# Altium integrated library Lattice FPGA MachXO2.IntLib: 444 symbols (part 37 of 39)
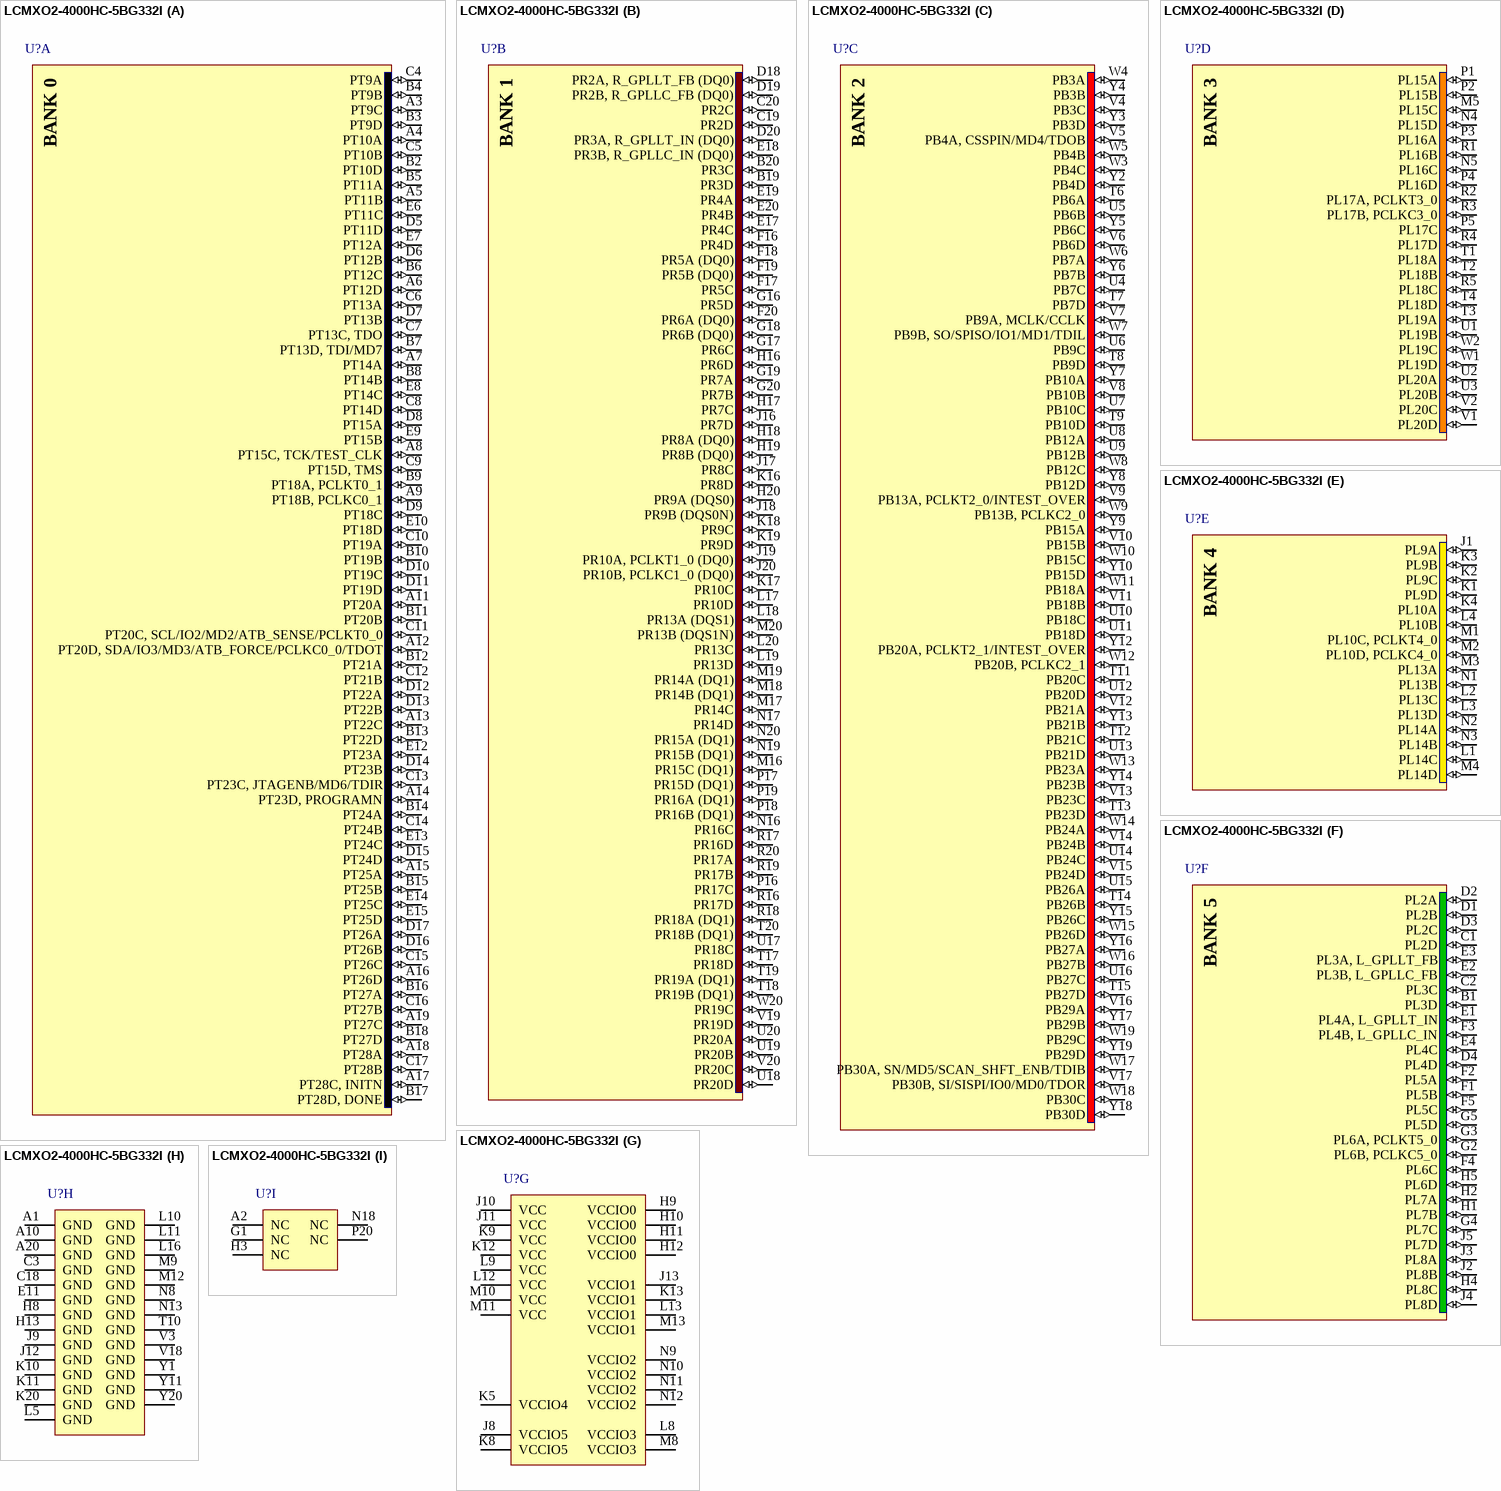
[diagram p441: symbol LCMXO2-4000HC-5BG332I]

## LCMXO2-4000HC-5BG332I
designator U?
MachXO2 High Performance CPLD with 4320 LUTs, Voltage Regulator, 2.5V/3.3V, 332-pin caBGA, Speed Grade-5, Industrial Grade, Halogen Free (RoHS); DatasheetVersion: ver01.5, Aug-2011; PackageVersion: ver02.8, Jul-2011; PackageReference: caBGA332; PackageDescription: 332-Ball caBGA Package, 17 x 17 mm Body, 0.8 mm Pitch; ComponentLink1Description: Manufacturer URL; ComponentLink1URL: http://www.latticesemi.com/; ComponentLink2Description: Datasheet; ComponentLink2URL: http://www.latticesemi.com/documents/DS1035.pdf; ComponentLink3Description: Package Specification; ComponentLink3URL: http://www.latticesemi.com/lit/docs/package/pkg.pdf
footprint caBGA332 (BGA, 332-Leads, Body 17x17mm, Pitch 0.8mm)
part A pins: A3 PT9C (io), A4 PT10A (io), A5 PT11B (io), A6 PT12D (io), A7 PT14A (io), A8 PT15C, TCK/TEST_CLK (io), A9 PT18B, PCLKC0_1 (io), A11 PT20A (io), A12 PT20D, SDA/IO3/MD3/ATB_FORCE/PCLKC0_0/TDOT (io), A13 PT22C (io), A14 PT23D, PROGRAMN (io), A15 PT25A (io), A16 PT26D (io), A17 PT28C, INITN (io), A18 PT28A (io), A19 PT27C (io), B2 PT10D (io), B3 PT9D (io), B4 PT9B (io), B5 PT11A (io), B6 PT12C (io), B7 PT13D, TDI/MD7 (io), B8 PT14B (io), B9 PT18A, PCLKT0_1 (io), B10 PT19B (io), B11 PT20B (io), B12 PT21A (io), B13 PT22D (io), B14 PT24A (io), B15 PT25B (io), B16 PT27A (io), B17 PT28D, DONE (io), B18 PT27D (io), C4 PT9A (io), C5 PT10B (io), C6 PT13A (io), C7 PT13C, TDO (io), C8 PT14D (io), C9 PT15D, TMS (io), C10 PT19A (io), C11 PT20C, SCL/IO2/MD2/ATB_SENSE/PCLKT0_0 (io), C12 PT21B (io), C13 PT23C, JTAGENB/MD6/TDIR (io), C14 PT24B (io), C15 PT26C (io), C16 PT27B (io), C17 PT28B (io), D5 PT11D (io), D6 PT12B (io), D7 PT13B (io), D8 PT15A (io), D9 PT18C (io), D10 PT19C (io), D11 PT19D (io), D12 PT22A (io), D13 PT22B (io), D14 PT23B (io), D15 PT24D (io), D16 PT26B (io), D17 PT26A (io), E6 PT11C (io), E7 PT12A (io), E8 PT14C (io), E9 PT15B (io), E10 PT18D (io), E12 PT23A (io), E13 PT24C (io), E14 PT25C (io), E15 PT25D (io)
part B pins: B19 PR3D (io), B20 PR3C (io), C19 PR2D (io), C20 PR2C (io), D18 PR2A, R_GPLLT_FB (DQ0) (io), D19 PR2B, R_GPLLC_FB (DQ0) (io), D20 PR3A, R_GPLLT_IN (DQ0) (io), E17 PR4C (io), E18 PR3B, R_GPLLC_IN (DQ0) (io), E19 PR4A (io), E20 PR4B (io), F16 PR4D (io), F17 PR5C (io), F18 PR5A (DQ0) (io), F19 PR5B (DQ0) (io), F20 PR6A (DQ0) (io), G16 PR5D (io), G17 PR6C (io), G18 PR6B (DQ0) (io), G19 PR7A (io), G20 PR7B (io), H16 PR6D (io), H17 PR7C (io), H18 PR8A (DQ0) (io), H19 PR8B (DQ0) (io), H20 PR9A (DQS0) (io), J16 PR7D (io), J17 PR8C (io), J18 PR9B (DQS0N) (io), J19 PR10A, PCLKT1_0 (DQ0) (io), J20 PR10B, PCLKC1_0 (DQ0) (io), K16 PR8D (io), K17 PR10C (io), K18 PR9C (io), K19 PR9D (io), L17 PR10D (io), L18 PR13A (DQS1) (io), L19 PR13D (io), L20 PR13C (io), M16 PR15C (DQ1) (io), M17 PR14C (io), M18 PR14B (DQ1) (io), M19 PR14A (DQ1) (io), M20 PR13B (DQS1N) (io), N16 PR16C (io), N17 PR14D (io), N19 PR15B (DQ1) (io), N20 PR15A (DQ1) (io), P16 PR17C (io), P17 PR15D (DQ1) (io), P18 PR16B (DQ1) (io), P19 PR16A (DQ1) (io), R16 PR17D (io), R17 PR16D (io), R18 PR18A (DQ1) (io), R19 PR17B (io), R20 PR17A (io), T17 PR18D (io), T18 PR19B (DQ1) (io), T19 PR19A (DQ1) (io), T20 PR18B (DQ1) (io), U17 PR18C (io), U18 PR20D (io), U19 PR20B (io), U20 PR20A (io), V19 PR19D (io), V20 PR20C (io), W20 PR19C (io)
part C pins: T6 PB6A (io), T7 PB7D (io), T8 PB9D (io), T9 PB10D (io), T11 PB20C (io), T12 PB21C (io), T13 PB23D (io), T14 PB26B (io), T15 PB27D (io), U4 PB7C (io), U5 PB6B (io), U6 PB9C (io), U7 PB10C (io), U8 PB12A (io), U9 PB12B (io), U10 PB18C (io), U11 PB18D (io), U12 PB20D (io), U13 PB21D (io), U14 PB24C (io), U15 PB26A (io), U16 PB27C (io), V4 PB3C (io), V5 PB4A, CSSPIN/MD4/TDOB (io), V6 PB6D (io), V7 PB9A, MCLK/CCLK (io), V8 PB10B (io), V9 PB13A, PCLKT2_0/INTEST_OVER (io), V10 PB15B (io), V11 PB18B (io), V12 PB21A (io), V13 PB23C (io), V14 PB24B (io), V15 PB24D (io), V16 PB29A (io), V17 PB30B, SI/SISPI/IO0/MD0/TDOR (io), W3 PB4C (io), W4 PB3A (io), W5 PB4B (io), W6 PB7A (io), W7 PB9B, SO/SPISO/IO1/MD1/TDIL (io), W8 PB12C (io), W9 PB13B, PCLKC2_0 (io), W10 PB15C (io), W11 PB18A (io), W12 PB20B, PCLKC2_1 (io), W13 PB23A (io), W14 PB24A (io), W15 PB26D (io), W16 PB27B (io), W17 PB30A, SN/MD5/SCAN_SHFT_ENB/TDIB (io), W18 PB30C (io), W19 PB29C (io), Y2 PB4D (io), Y3 PB3D (io), Y4 PB3B (io), Y5 PB6C (io), Y6 PB7B (io), Y7 PB10A (io), Y8 PB12D (io), Y9 PB15A (io), Y10 PB15D (io), Y12 PB20A, PCLKT2_1/INTEST_OVER (io), Y13 PB21B (io), Y14 PB23B (io), Y15 PB26C (io), Y16 PB27A (io), Y17 PB29B (io), Y18 PB30D (io), Y19 PB29D (io)
part D pins: M5 PL15C (io), N4 PL15D (io), N5 PL16C (io), P1 PL15A (io), P2 PL15B (io), P3 PL16A (io), P4 PL16D (io), P5 PL17C (io), R1 PL16B (io), R2 PL17A, PCLKT3_0 (io), R3 PL17B, PCLKC3_0 (io), R4 PL17D (io), R5 PL18C (io), T1 PL18A (io), T2 PL18B (io), T3 PL19A (io), T4 PL18D (io), U1 PL19B (io), U2 PL20A (io), U3 PL20B (io), V1 PL20D (io), V2 PL20C (io), W1 PL19D (io), W2 PL19C (io)
part E pins: J1 PL9A (io), K1 PL9D (io), K2 PL9C (io), K3 PL9B (io), K4 PL10A (io), L1 PL14C (io), L2 PL13C (io), L3 PL13D (io), L4 PL10B (io), M1 PL10C, PCLKT4_0 (io), M2 PL10D, PCLKC4_0 (io), M3 PL13A (io), M4 PL14D (io), N1 PL13B (io), N2 PL14A (io), N3 PL14B (io)
part F pins: B1 PL3D (io), C1 PL2D (io), C2 PL3C (io), D1 PL2B (io), D2 PL2A (io), D3 PL2C (io), D4 PL4D (io), E1 PL4A, L_GPLLT_IN (io), E2 PL3B, L_GPLLC_FB (io), E3 PL3A, L_GPLLT_FB (io), E4 PL4C (io), F1 PL5B (io), F2 PL5A (io), F3 PL4B, L_GPLLC_IN (io), F4 PL6C (io), F5 PL5C (io), G2 PL6B, PCLKC5_0 (io), G3 PL6A, PCLKT5_0 (io), G4 PL7C (io), G5 PL5D (io), H1 PL7B (io), H2 PL7A (io), H4 PL8C (io), H5 PL6D (io), J2 PL8B (io), J3 PL8A (io), J4 PL8D (io), J5 PL7D (io)
part G pins: H9 VCCIO0 (power), H10 VCCIO0 (power), H11 VCCIO0 (power), H12 VCCIO0 (power), J8 VCCIO5 (power), J10 VCC (power), J11 VCC (power), J13 VCCIO1 (power), K5 VCCIO4 (power), K8 VCCIO5 (power), K9 VCC (power), K12 VCC (power), K13 VCCIO1 (power), L8 VCCIO3 (power), L9 VCC (power), L12 VCC (power), L13 VCCIO1 (power), M8 VCCIO3 (power), M10 VCC (power), M11 VCC (power), M13 VCCIO1 (power), N9 VCCIO2 (power), N10 VCCIO2 (power), N11 VCCIO2 (power), N12 VCCIO2 (power)
part H pins: A1 GND (power), A10 GND (power), A20 GND (power), C3 GND (power), C18 GND (power), E11 GND (power), H8 GND (power), H13 GND (power), J9 GND (power), J12 GND (power), K10 GND (power), K11 GND (power), K20 GND (power), L5 GND (power), L10 GND (power), L11 GND (power), L16 GND (power), M9 GND (power), M12 GND (power), N8 GND (power), N13 GND (power), T10 GND (power), V3 GND (power), V18 GND (power), Y1 GND (power), Y11 GND (power), Y20 GND (power)
part I pins: A2 NC, G1 NC, H3 NC, N18 NC, P20 NC
part A text: BANK 0
part B text: BANK 1
part C text: BANK 2
part D text: BANK 3
part E text: BANK 4
part F text: BANK 5

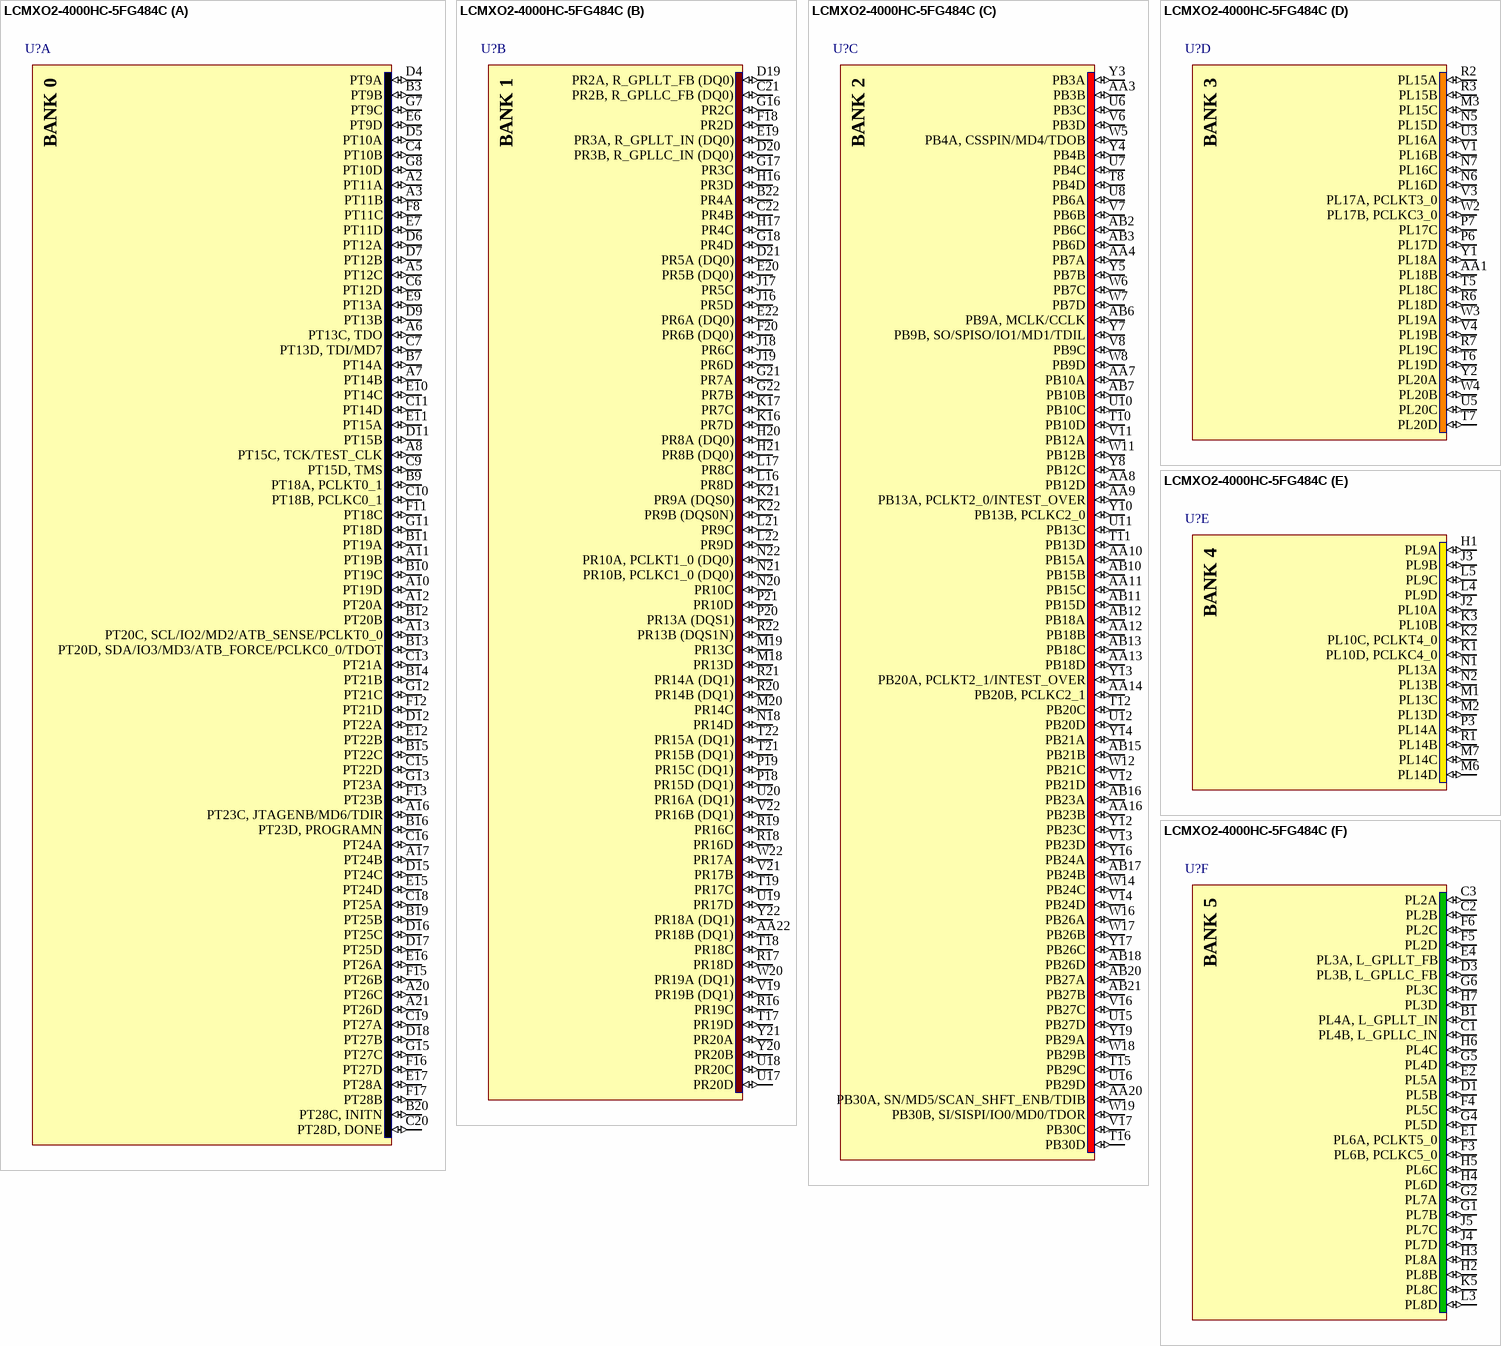
[diagram p151: symbol LCMXO2-4000HC-5FG484C]

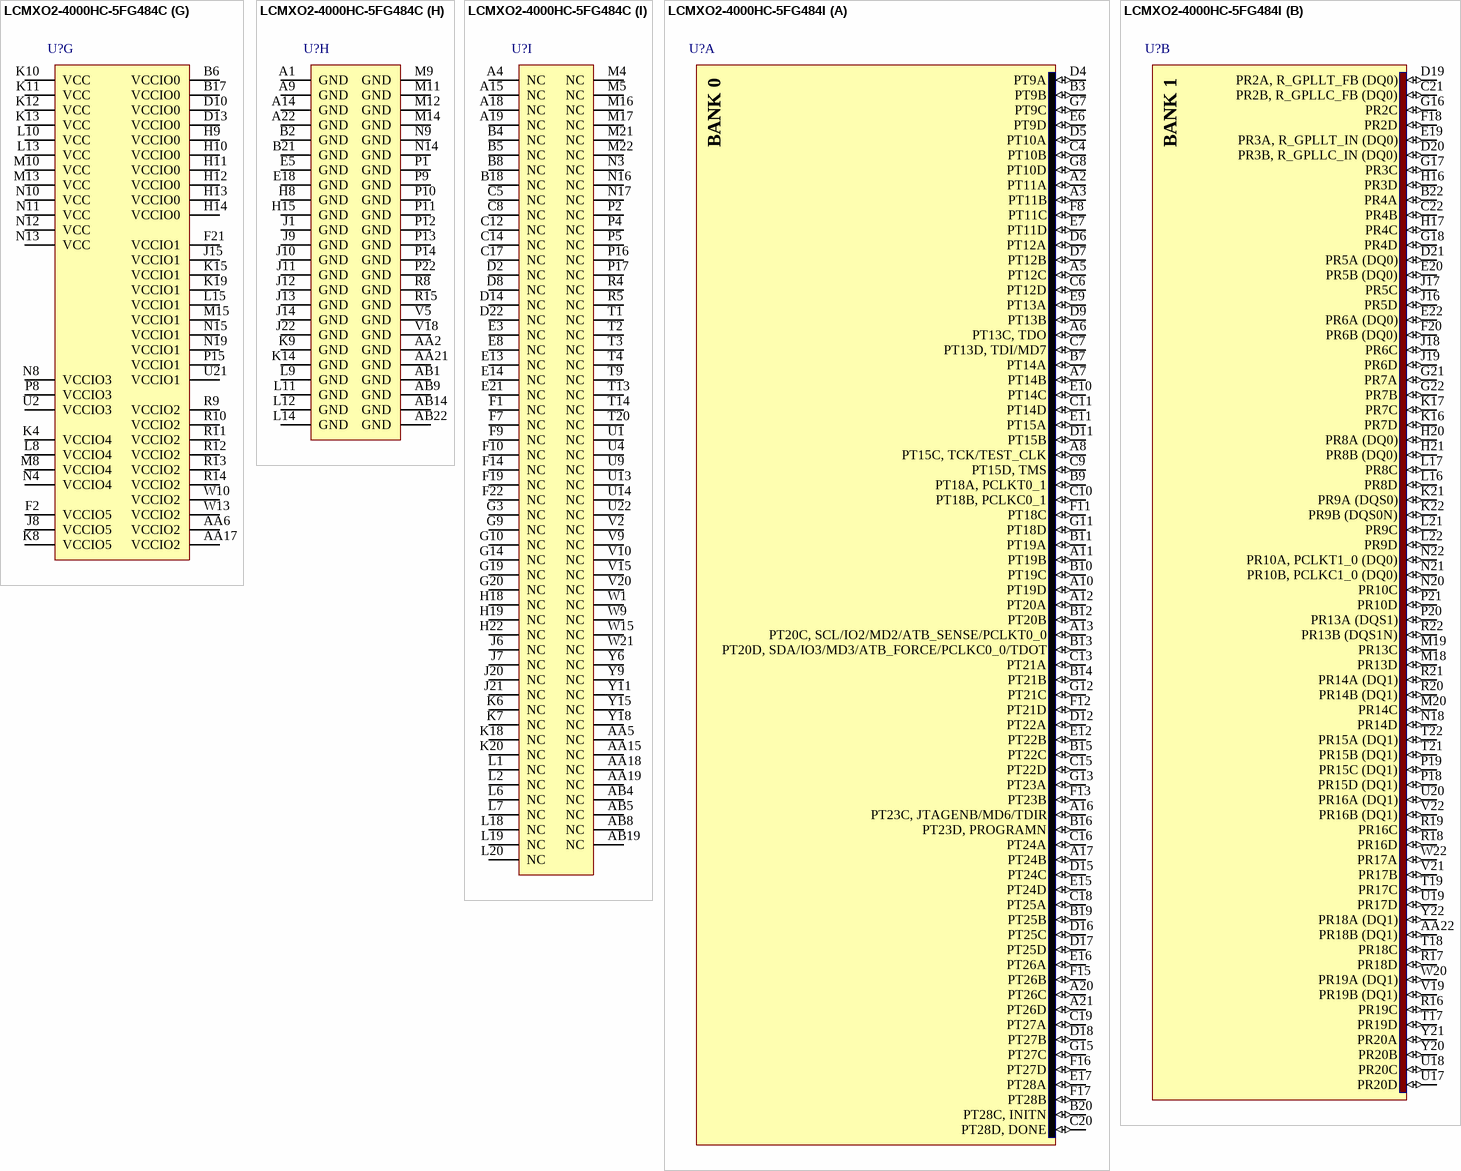
[diagram p152: symbols LCMXO2-4000HC-5FG484C to LCMXO2-4000HC-5FG484I]